# Altium schematic symbol library PSC3M5_VQFN-64.SchLib: 1 symbol
Pins are listed as number, name and electrical type; pins without a type are passive.

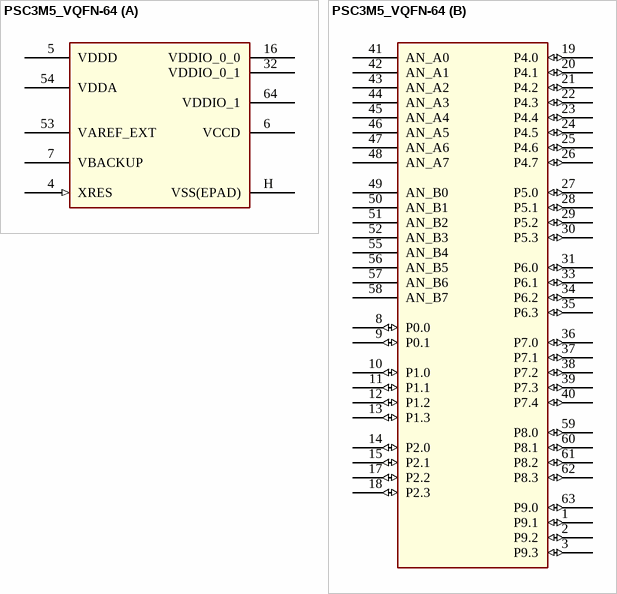
[diagram p0: symbol PSC3M5_VQFN-64]

## PSC3M5_VQFN-64
designator U?
SPLIT_INST: TRUE; SWAP_INFO: (S1+S2)
part A pins: 4 XRES (in), 5 VDDD (power), 6 VCCD (power), 7 VBACKUP (power), 16 VDDIO_0_0 (power), 32 VDDIO_0_1 (power), 53 VAREF_EXT (power), 54 VDDA (power), 64 VDDIO_1 (power), H VSS(EPAD) (power)
part B pins: 1 P9.1 (io), 2 P9.2 (io), 3 P9.3 (io), 8 P0.0 (io), 9 P0.1 (io), 10 P1.0 (io), 11 P1.1 (io), 12 P1.2 (io), 13 P1.3 (io), 14 P2.0 (io), 15 P2.1 (io), 17 P2.2 (io), 18 P2.3 (io), 19 P4.0 (io), 20 P4.1 (io), 21 P4.2 (io), 22 P4.3 (io), 23 P4.4 (io), 24 P4.5 (io), 25 P4.6 (io), 26 P4.7 (io), 27 P5.0 (io), 28 P5.1 (io), 29 P5.2 (io), 30 P5.3 (io), 31 P6.0 (io), 33 P6.1 (io), 34 P6.2 (io), 35 P6.3 (io), 36 P7.0 (io), 37 P7.1 (io), 38 P7.2 (io), 39 P7.3 (io), 40 P7.4 (io), 41 AN_A0 (power), 42 AN_A1 (power), 43 AN_A2 (power), 44 AN_A3 (power), 45 AN_A4 (power), 46 AN_A5 (power), 47 AN_A6 (power), 48 AN_A7 (power), 49 AN_B0 (power), 50 AN_B1 (power), 51 AN_B2 (power), 52 AN_B3 (power), 55 AN_B4 (power), 56 AN_B5 (power), 57 AN_B6 (power), 58 AN_B7 (power), 59 P8.0 (io), 60 P8.1 (io), 61 P8.2 (io), 62 P8.3 (io), 63 P9.0 (io)